# Altium footprint library Tool.PcbLib: 86 footprints (part 4 of 6)
Each footprint in its own frame and in the unit in brackets; x right, y up, seen from the top. Pads: shape width x height; smd on the part's side, far side on the other; paste and mask are expansions set on the pad; w line width, h text height; cw(c..) or ccw(c..) is an arc to the next point about the centre after c.
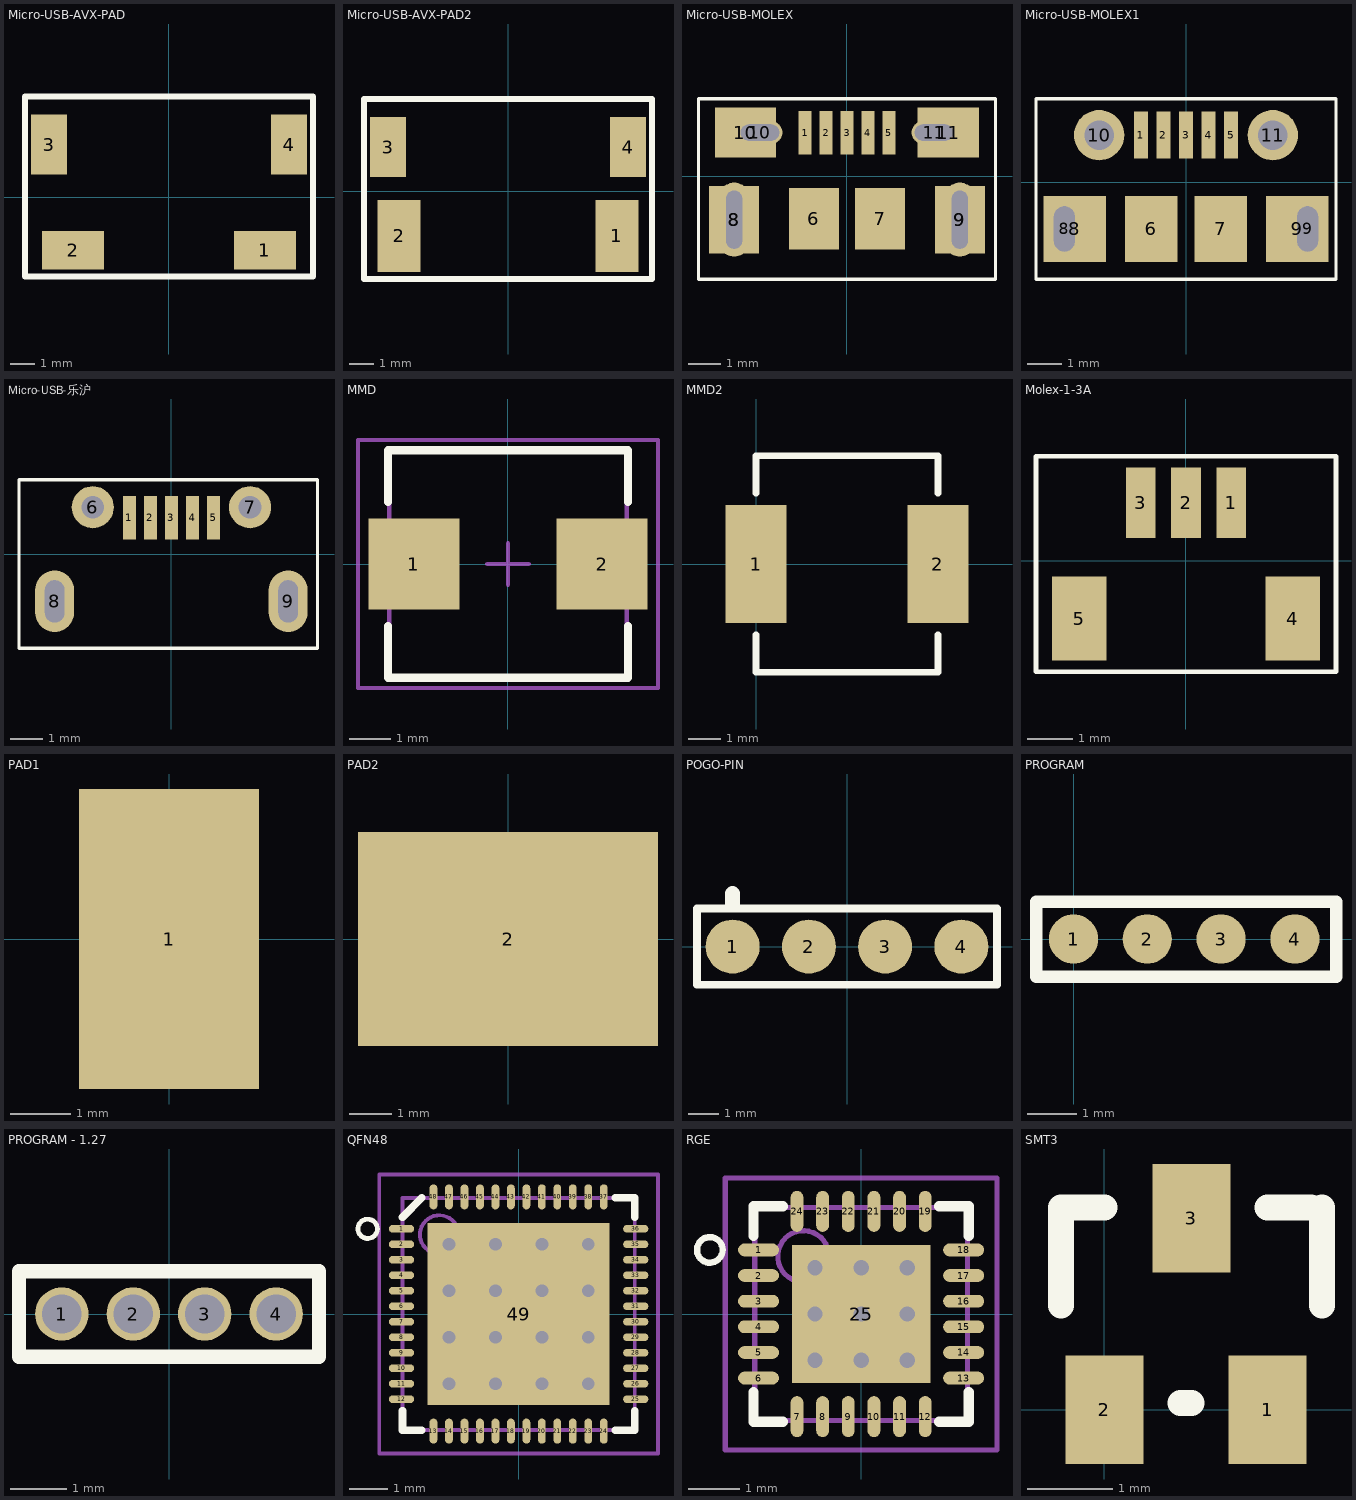
[diagram p3: the footprints below, top view; thin cyan lines are the x and y axes]

## Micro-USB-AVX-PAD [mm]
pads (4):
  rect 2.6x1.6 smd: 1(4,-2.203) 2(-4,-2.203)
  rect 1.5x2.5 smd: 3(-5,2.204) 4(5,2.204)
Top Overlay:
  lines w0.254: -6,-3.296 -6,4.204 6,4.204 6,-3.296 -6,-3.296
3D body: height 3.9, standoff 0, extent -5.902,-3.148 5.902,4.012

## Micro-USB-AVX-PAD2 [mm]
pads (4):
  rect 1.8x3 smd: 1(4.54,-1.85) 2(-4.54,-1.85)
  rect 1.5x2.5 smd: 3(-5,1.85) 4(5,1.85)
Top Overlay:
  lines w0.254: -6,-3.65 6,-3.65 6,3.85 -6,3.85 -6,-3.65
3D body: height 3.9, standoff 0, extent -5.902,-3.502 5.902,3.659

## Micro-USB-MOLEX [mm] "厂家：Molex，型号：1050170002"
pads (15):
  rect 0.4x1.35 smd: 1(-1.3,1.35) 2(-0.65,1.35) 3(0,1.35) 4(0.65,1.35) 5(1.3,1.35)
  rect 1.55x1.9 smd: 6(-1.025,-1.325) 7(1.025,-1.325)
  rect 1.55x2.1 smd: 8(-3.5,-1.35) 9(3.5,-1.35)
  oval 1x2.3 hole 0.5 slot 1.8 at 90 deg: 8(-3.5,-1.35) 9(3.5,-1.35)
  rect 1.9x1.55 smd: 10(-3.15,1.35) 11(3.14,1.35)
  oval 1.4x0.7 hole 0.5 slot 1.2 at 0 deg: 10(-2.7,1.35) 11(2.7,1.35)
Top Overlay:
  lines w0.1: -4.6,-3.2 4.6,-3.2 4.6,2.4 -4.6,2.4 -4.6,-3.2
3D body "1050170002.stp": height 2.68, standoff -0.72, extent -3.975,-3.9 4.025,1.81

## Micro-USB-MOLEX1 [mm] "厂家：Molex，型号：1050170001"
pads (13):
  rect 0.4x1.35 smd: 1(-1.3,1.35) 2(-0.65,1.35) 3(0,1.35) 4(0.65,1.35) 5(1.3,1.35)
  rect 1.5x1.9 smd: 6(-1,-1.35) 7(1,-1.35)
  oval 0.6x1.3 hole 0.6 slot 1.3 at 90 deg: 8(-3.5,-1.35) 9(3.5,-1.35)
  rect 1.8x1.9 smd: 8(-3.2,-1.35) 9(3.2,-1.35)
  round 1.45 hole 0.85: 10(-2.5,1.35) 11(2.5,1.35)
Top Overlay:
  lines w0.1: -4.318,-2.8 4.318,-2.8 4.318,2.4 -4.318,2.4 -4.318,-2.8
3D body "1050170001.stp": height 2.48, standoff -0.82, extent -4.1,-3.876 4.1,1.524

## Micro-USB-乐沪 [mm] "厂家：乐沪，型号：MC-100503035"
pads (9):
  rect 0.4x1.35 smd: 1(-1.3,1.125) 2(-0.65,1.125) 3(0,1.125) 4(0.65,1.125) 5(1.3,1.125)
  round 1.3 hole 0.7: 6(-2.425,1.45) 7(2.425,1.45)
  oval 1.2x1.9 hole 0.6 slot 1.3 at 90 deg: 8(-3.6,-1.45) 9(3.6,-1.45)
Top Overlay:
  lines w0.1: -4.7,-2.9 4.5,-2.9 4.5,2.3 -4.7,2.3 -4.7,-2.9

## MMD [mm] "Molded Capacitor, 2-Leads, Body 5.5x5.2mm, IPC Medium Density"
height 1.8
pads (2):
  rect 2.2x2.2 smd: 1(-2.275,0) 2(2.275,0)
Top Overlay:
  lines w0.2: -2.9,-1.5 -2.9,-2.75 2.9,-2.75 2.9,-1.5 ; -2.9,1.5 -2.9,2.75 2.9,2.75 2.9,1.5
Mechanical 13:
  lines w0.1: -2.87,-2.715 2.87,-2.715 2.87,2.715 -2.87,2.715 -2.87,-2.715
Mechanical 15:
  lines w0.1: -0.5,0 0.5,0 ; 0,-0.5 0,0.5 ; -3.625,-3 3.625,-3 3.625,3 -3.625,3 -3.625,-3
3D body: height 1.8, standoff 0, extent -2.87,-2.715 2.87,2.715

## MMD2 [mm] "Molded Capacitor, 2-Leads, Body 5.5x5.2mm, IPC Medium Density"
height 1.8
pads (2):
  rect 1.85x3.6 smd: 1(0,0) 2(5.55,0)
Top Overlay:
  lines w0.2: 0,-2.159 0,-3.3 5.55,-3.3 5.55,-2.159 ; 0,2.159 0,3.3 5.55,3.3 5.55,2.159

## Molex-1-3A [mm]
pads (5):
  rect 0.65x1.55 smd: 1(1,1.275) 2(0,1.275) 3(-1,1.275)
  rect 1.2x1.85 smd: 4(2.35,-1.275) 5(-2.35,-1.275)
Top Overlay:
  lines w0.1: -3.3,-2.45 3.3,-2.45 3.3,2.3 -3.3,2.3 -3.3,-2.45
3D body: height 5.54, standoff 0, extent -3.052,-2.302 3.052,2.152

## PAD1 [mm]
pads (1):
  rect 3x5 smd: 1(0,0)

## PAD2 [mm]
pads (1):
  rect 7x5 smd: 2(0,0)

## POGO-PIN [mm] "厂家：TopLink，型号：100871-4"
pads (4):
  round 1.8 smd: 1(-3.81,0) 2(-1.27,0) 3(1.27,0) 4(3.81,0)
Top Overlay:
  lines w0.254: -5,-1.27 -5,1.27 5,1.27 5,-1.27 -5,-1.27
  lines w0.5: -3.81,1.397 -3.81,1.778

## PROGRAM [mm]
pads (4):
  round 1 smd: 1(0,0) 2(1.5,0) 3(3,0) 4(4.5,0)
Top Overlay:
  lines w0.254: -0.762,-0.762 5.334,-0.762 5.334,0.762 -0.762,0.762 -0.762,-0.762
3D body: height 0.1, standoff 0, extent -0.602,-0.602 5.102,0.602

## PROGRAM - 1.27 [mm]
pads (4):
  round 0.95 hole 0.7: 1(-1.905,0) 2(-0.635,0) 3(0.635,0) 4(1.905,0)
Top Overlay:
  lines w0.254: -2.667,-0.762 -2.667,0.762 2.667,0.762 2.667,-0.762 -2.667,-0.762
3D body: height 0, standoff 0, extent -2.482,-0.577 2.482,0.577

## QFN48 [mm]
pads (49):
  oval 0.65x0.2 smd: 1(-3.025,2.2) 2(-3.025,1.8) 3(-3.025,1.4) 4(-3.025,1) 5(-3.025,0.6) 6(-3.025,0.2) 7(-3.025,-0.2) 8(-3.025,-0.6) 9(-3.025,-1) 10(-3.025,-1.4) 11(-3.025,-1.8) 12(-3.025,-2.2) 25(3.025,-2.2) 26(3.025,-1.8) 27(3.025,-1.4) 28(3.025,-1) 29(3.025,-0.6) 30(3.025,-0.2) 31(3.025,0.2) 32(3.025,0.6) 33(3.025,1) 34(3.025,1.4) 35(3.025,1.8) 36(3.025,2.2)
  oval 0.2x0.65 smd: 13(-2.2,-3.025) 14(-1.8,-3.025) 15(-1.4,-3.025) 16(-1,-3.025) 17(-0.6,-3.025) 18(-0.2,-3.025) 19(0.2,-3.025) 20(0.6,-3.025) 21(1,-3.025) 22(1.4,-3.025) 23(1.8,-3.025) 24(2.2,-3.025) 37(2.2,3.025) 38(1.8,3.025) 39(1.4,3.025) 40(1,3.025) 41(0.6,3.025) 42(0.2,3.025) 43(-0.2,3.025) 44(-0.6,3.025) 45(-1,3.025) 46(-1.4,3.025) 47(-1.8,3.025) 48(-2.2,3.025)
  rect 4.7x4.7 smd: 49(0,0)
via 1.8,-1.8 diameter 0.66 hole 0.33
via 0.6,-1.8 diameter 0.66 hole 0.33
via -0.6,-1.8 diameter 0.66 hole 0.33
via -1.8,-1.8 diameter 0.66 hole 0.33
via 1.8,-0.6 diameter 0.66 hole 0.33
via 0.6,-0.6 diameter 0.66 hole 0.33
via -0.6,-0.6 diameter 0.66 hole 0.33
via -1.8,-0.6 diameter 0.66 hole 0.33
via 1.8,0.6 diameter 0.66 hole 0.33
via 0.6,0.6 diameter 0.66 hole 0.33
via -0.6,0.6 diameter 0.66 hole 0.33
via -1.8,0.6 diameter 0.66 hole 0.33
via 1.8,1.8 diameter 0.66 hole 0.33
via 0.6,1.8 diameter 0.66 hole 0.33
via -0.6,1.8 diameter 0.66 hole 0.33
via -1.8,1.8 diameter 0.66 hole 0.33
Top Overlay:
  circle w0.125: c-3.9,2.2 r0.25
  lines w0.2: -3,-2.5 -3,-3 -2.5,-3 ; -3,2.5 -2.5,3 ; 2.5,-3 3,-3 3,-2.5 ; 2.5,3 3,3 3,2.5
Mechanical 13:
  circle w0.1: c-2.05,2.05 r0.5
  lines w0.1: -3,-3 3,-3 3,3 -3,3 -3,-3
Mechanical 15:
  lines w0.1: -0.5,0 0.5,0 ; 0,-0.5 0,0.5 ; -3.6,-3.6 3.6,-3.6 3.6,3.6 -3.6,3.6 -3.6,-3.6
3D body: height 0.9, standoff 0, extent -3,-3 3,3

## RGE [mm]
height 1
pads (25):
  oval 0.8x0.25 smd: 1(-2,1.25) 2(-2,0.75) 3(-2,0.25) 4(-2,-0.25) 5(-2,-0.75) 6(-2,-1.25) 13(2,-1.25) 14(2,-0.75) 15(2,-0.25) 16(2,0.25) 17(2,0.75) 18(2,1.25)
  oval 0.25x0.8 smd: 7(-1.25,-2) 8(-0.75,-2) 9(-0.25,-2) 10(0.25,-2) 11(0.75,-2) 12(1.25,-2) 19(1.25,2) 20(0.75,2) 21(0.25,2) 22(-0.25,2) 23(-0.75,2) 24(-1.25,2)
  rect 2.7x2.7 smd: 25(0,0)
via -0.9,0.9 diameter 0.6 hole 0.3
via -0.9,0 diameter 0.6 hole 0.3
via -0.9,-0.9 diameter 0.6 hole 0.3
via 0.9,-0.9 diameter 0.6 hole 0.3
via 0.9,0 diameter 0.6 hole 0.3
via 0.9,0.9 diameter 0.6 hole 0.3
via 0,0.9 diameter 0.6 hole 0.3
via 0,-0.9 diameter 0.6 hole 0.3
via 0,0 diameter 0.6 hole 0.3
Top Overlay:
  circle w0.125: c-2.95,1.25 r0.25
  lines w0.2: -2.1,-1.525 -2.1,-2.1 -1.525,-2.1 ; -2.1,1.525 -2.1,2.1 -1.525,2.1 ; 1.525,-2.1 2.1,-2.1 2.1,-1.525 ; 1.525,2.1 2.1,2.1 2.1,1.525
Mechanical 13:
  circle w0.1: c-1.125,1.125 r0.5
  lines w0.1: -2.075,-2.075 2.075,-2.075 2.075,2.075 -2.075,2.075 -2.075,-2.075
Mechanical 15:
  lines w0.1: -0.5,0 0.5,0 ; 0,-0.5 0,0.5 ; -2.65,-2.65 2.65,-2.65 2.65,2.65 -2.65,2.65 -2.65,-2.65
3D body: height 1, standoff 0.05, extent -2.075,-2.075 2.075,2.075

## SMT3 [mil]
pads (3):
  rect 36x50 smd: 1(75,0) 2(0,0) 3(40,88)
Top Overlay:
  lines w12: -20,48 -20,93 0,93 ; 35,3 40,3 ; 75,93 95,93 ; 100,48 100,93
3D body: height 37.4, standoff 0, extent -22,-29.01 97,116.99